# Altium footprint library CONN - TH_UART.PcbLib: 1 footprints
Each footprint in its own frame and in the unit in brackets; x right, y up, seen from the top. Pads: shape width x height; smd on the part's side, far side on the other; paste and mask are expansions set on the pad; w line width, h text height; cw(c..) or ccw(c..) is an arc to the next point about the centre after c.
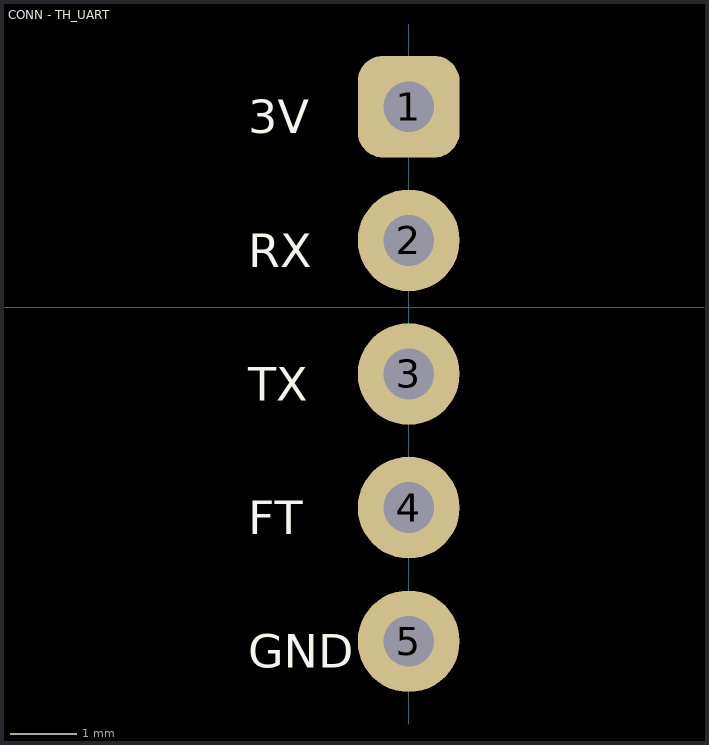
[diagram p0: the footprint, top view; thin cyan lines are the x and y axes]

## CONN - TH_UART [mil]
pads (5):
  rrect50% 60x60 hole 30: 1(0,118.11)
  round 60 hole 30: 2(0,39.37) 3(0,-39.37) 4(0,-118.11) 5(0,-196.85)
Top Overlay:
  text "3V" at -94.49,102.36 h19.68
  text "RX" at -94.49,23.62 h19.68
  text "TX" at -94.49,-55.12 h19.68
  text "FT" at -94.49,-133.86 h19.68
  text "GND" at -94.49,-212.6 h19.68